# Altium footprint library AMT.PcbLib: 1 footprints
Each footprint in its own frame and in the unit in brackets; x right, y up, seen from the top. Pads: shape width x height; smd on the part's side, far side on the other; paste and mask are expansions set on the pad; w line width, h text height; cw(c..) or ccw(c..) is an arc to the next point about the centre after c.
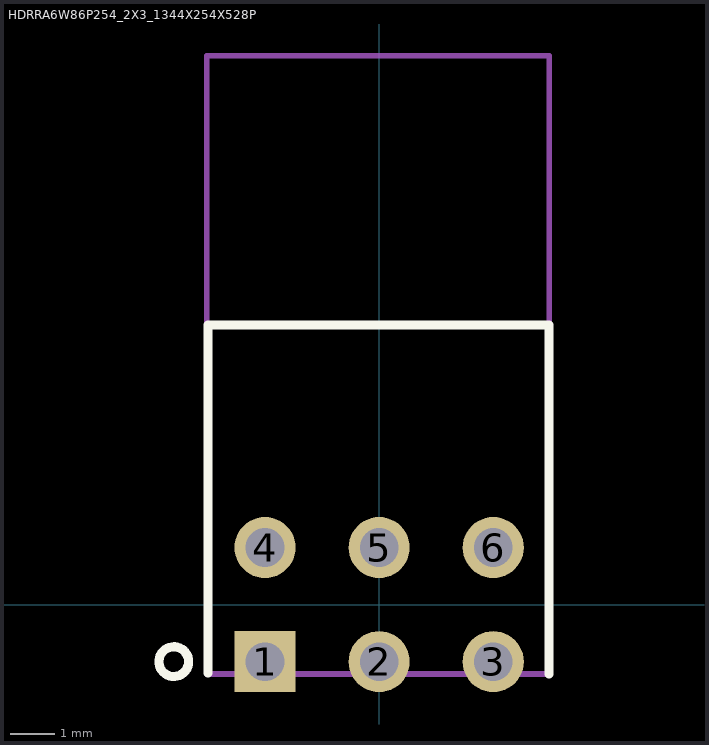
[diagram p0: the footprint, top view; thin cyan lines are the x and y axes]

## HDRRA6W86P254_2X3_1344X254X528P [mm] "CONN HEADER R/A 6POS 2.54MM"
height 5.28
pads (6):
  rect 1.36x1.36 hole 0.86 mask+0.076: 1(-2.54,-1.27)
  round 1.36 hole 0.86 mask+0.076: 2(0,-1.27) 3(2.54,-1.27) 4(-2.54,1.27) 5(0,1.27) 6(2.54,1.27)
Top Overlay:
  circle w0.203: c-4.572,-1.27 r0.331
  lines w0.203: -3.812,-1.523 -3.812,6.224 3.785,6.224 3.785,-1.546
Mechanical 1:
  text ".Designator" at 0,0 h1.02
Mechanical 15:
  circle w0.127: c-2.54,-1.016 r0.254
  lines w0.127: -3.812,6.224 3.785,6.224 ; -3.835,-1.546 3.785,-1.546 3.785,12.214 -3.835,12.214 -3.835,-1.546
  text "PCB EDGE" at -2.921,6.604 h0.76
3D body "m20-9950345_asm.stp": height 4.54, standoff -3.54, extent -3.835,-1.546 3.785,12.214